# Altium integrated library SEN0142.IntLib: 1 symbol
Pins are listed as number, name and electrical type; pins without a type are passive.

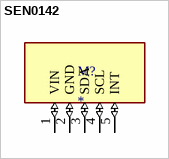
[diagram p0: symbol SEN0142]

## SEN0142
designator M?
MPU-6050 series Accelerometer, Gyroscope, 3 Axis Sensor Evaluation Board; MF: DFRobot; MP: SEN0142; SnapEDA_Link: https://www.snapeda.com/parts/SEN0142/DFRobot/view-part/?ref=snap; Package: None; Value: *; Check_prices: https://www.snapeda.com/parts/SEN0142/DFRobot/view-part/?ref=eda
footprint SEN0142
pins: 1 VIN (io), 2 GND (io), 3 SDA (io), 4 SCL (io), 5 INT (io)